# Altium footprint library PJ366ST.PcbLib: 1 footprints
Each footprint in its own frame and in the unit in brackets; x right, y up, seen from the top. Pads: shape width x height; smd on the part's side, far side on the other; paste and mask are expansions set on the pad; w line width, h text height; cw(c..) or ccw(c..) is an arc to the next point about the centre after c.
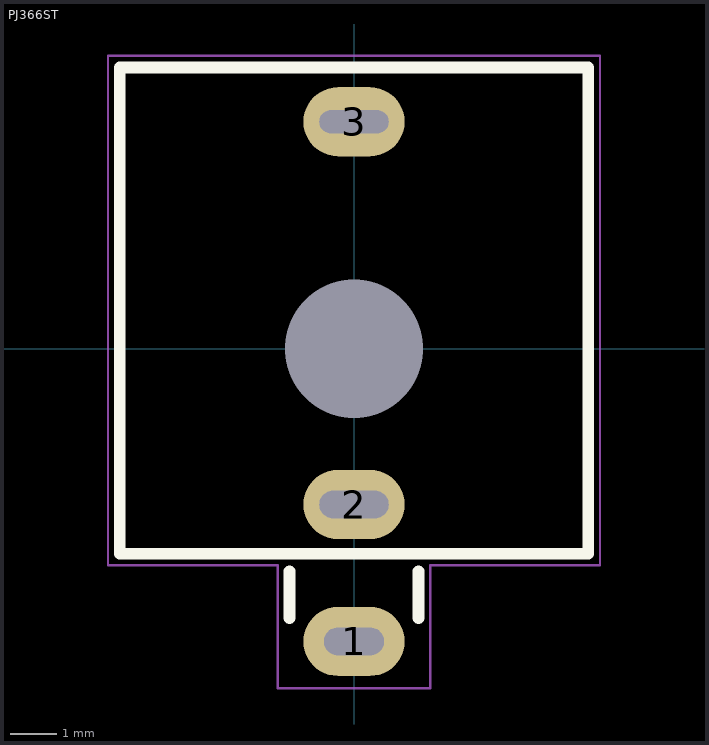
[diagram p0: the footprint, top view; thin cyan lines are the x and y axes]

## PJ366ST [mm] "Moddeled after QingPu WQP-WQP419GR"
pads (4):
  round 0.025 hole 3 unplated: 0(0,0)
  oval 2.2x1.5 hole 0.6 slot 1.3 at 0 deg: 1(0,-6.35)
  oval 2.2x1.5 hole 0.6 slot 1.5 at 0 deg: 2(0,-3.38)
  oval 2.2x1.5 hole 0.5 slot 1.5 at 0 deg: 3(0,4.92)
Top Overlay:
  lines w0.254: -1.397,-5.842 -1.397,-4.826 ; 1.397,-5.842 1.397,-4.826 ; -5.08,-4.445 -5.08,6.096 5.08,6.096 5.08,-4.445 -5.08,-4.445
Mechanical 15:
  lines w0.05: -0.254,0 0.254,0 ; 0,-0.254 0,0.254 ; -5.334,-4.699 -1.651,-4.699 -1.651,-7.366 1.651,-7.366 1.651,-4.699 5.334,-4.699 5.334,6.35 -5.334,6.35 -5.334,-4.699
3D body "PJ366ST.step": height 15.52, standoff -3.53, extent -5,-6.73 5,6